# EAGLE library part HIP4080A (library noah)
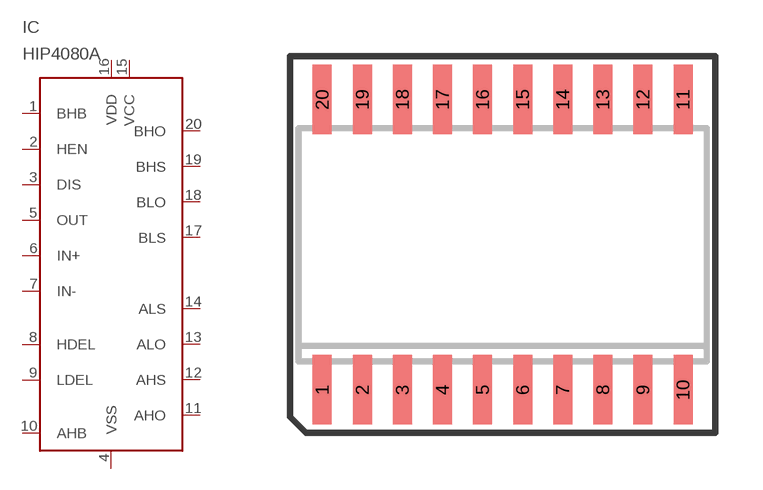
[diagram p31: symbol with the pads of SO20W; footprint SO20W]

Designator prefix IC

## HIP4080A  [SO20W]
1  BHB  in
2  HEN  in
3  DIS  in
4  VSS  pwr
5  OUT  in
6  IN+  in
7  IN-  in
8  HDEL  in
9  LDEL  in
10  AHB  in
11  AHO  out
12  AHS  in
13  ALO  out
14  ALS  pas
15  VCC  in
16  VDD  pwr
17  BLS  pas
18  BLO  out
19  BHS  in
20  BHO  out

## Footprint SO20W (pad centres in mm)
SMALL OUTLINE INTEGRATED CIRCUIT wide body 7.5 mm/JEDEC MS-013AC
smd 0.6 x 2.2: 1 -5.715,-4.6; 2 -4.445,-4.6; 3 -3.175,-4.6; 4 -1.905,-4.6; 5 -0.635,-4.6; 6 0.635,-4.6; 7 1.905,-4.6; 8 3.175,-4.6; 9 4.445,-4.6; 10 5.715,-4.6; 11 5.715,4.6; 12 4.445,4.6; 13 3.175,4.6; 14 1.905,4.6; 15 0.635,4.6; 16 -0.635,4.6; 17 -1.905,4.6; 18 -3.175,4.6; 19 -4.445,4.6; 20 -5.715,4.6